# Altium schematic symbol library power.SchLib: 12 symbols
Pins are listed as number, name and electrical type; pins without a type are passive.

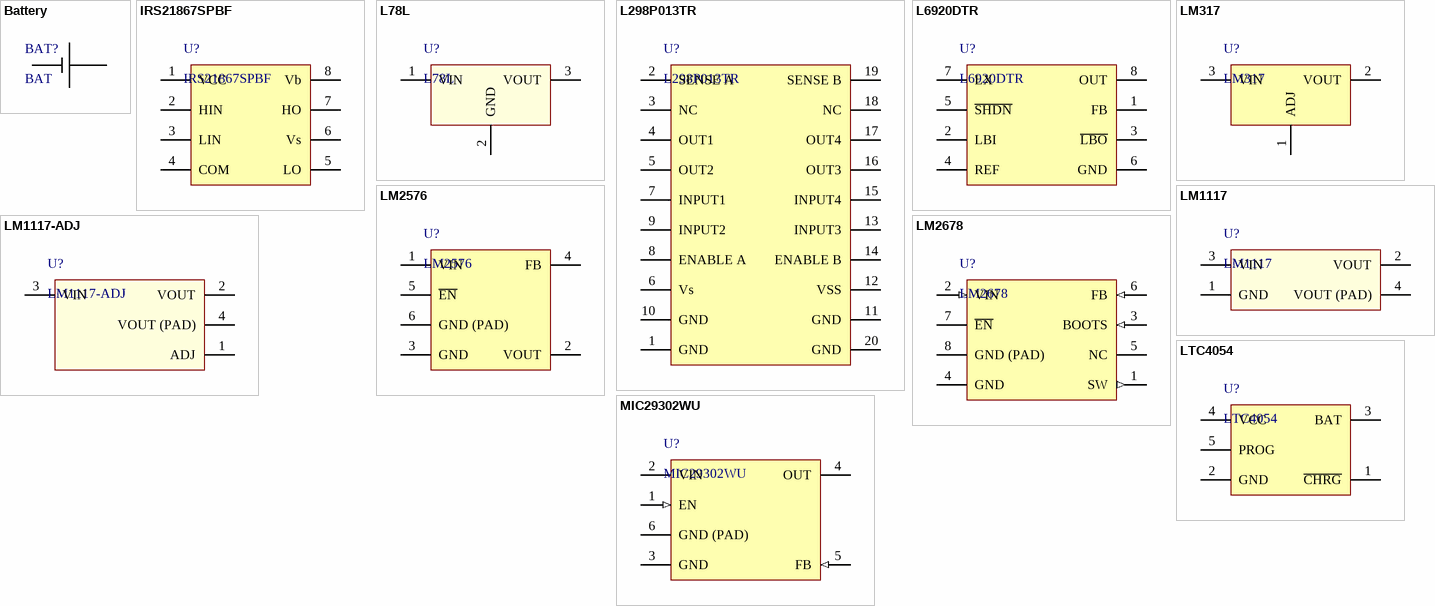
[diagram p0: symbols Battery to MIC29302WU]

## Battery
designator BAT?, comment BAT
Battery
footprint 18650 holder
footprint PLS-2 2.54 (Pitch 2.54)
pins: 1 (power), 2 (power)

## IRS21867SPBF
designator U?
MOSFET driver
footprint SO8_1.27
pins: 1 VCC, 2 HIN, 3 LIN, 4 COM, 5 LO, 6 Vs, 7 HO, 8 Vb

## L78L
designator U?
LDO voltage regulator
footprint SOT89
pins: 1 VIN (power), 2 GND (power), 3 VOUT (power)

## L298P013TR
designator U?
Dual DC motor driver
footprint PowerSO20_1.27 (Dual row, 20 pins, 1.27mm pitch)
pins: 1 GND, 2 SENSE A, 3 NC, 4 OUT1, 5 OUT2, 6 Vs, 7 INPUT1, 8 ENABLE A, 9 INPUT2, 10 GND, 11 GND, 12 VSS, 13 INPUT3, 14 ENABLE B, 15 INPUT4, 16 OUT3, 17 OUT4, 18 NC, 19 SENSE B, 20 GND

## L6920DTR
designator U?
DC-DC step-up switching regulator
footprint SO8_0.65
pins: 1 FB, 2 LBI, 3 ~{LBO}, 4 REF, 5 ~{SHDN}, 6 GND, 7 LX, 8 OUT

## LM317
designator U?
Linear regulator LM317
pins: 1 ADJ, 2 VOUT, 3 VIN

## LM1117
designator U?
LDO voltage regulator
footprint SOT223 (SOT223, 4-Leads, Body 6.50x7.00mm (avg), Pitch 2.30mm, IPC Medium Density)
footprint TO252AA/DPAK (TO252AA/DPAK package); pin to pad 2>3 3>2 4>3
pins: 1 GND (power), 2 VOUT (power), 3 VIN (power), 4 VOUT (PAD) (power)

## LM1117-ADJ
designator U?
LDO voltage regulator
footprint SOT223 (SOT223, 4-Leads, Body 6.50x7.00mm (avg), Pitch 2.30mm, IPC Medium Density)
pins: 1 ADJ (power), 2 VOUT (power), 3 VIN (power), 4 VOUT (PAD) (power)

## LM2576
designator U?
DC-DC step-down switching regulator
footprint TO263-5/D2PAK-5 (TO263/D2PAK package, 5 pins version)
pins: 1 VIN, 2 VOUT, 3 GND, 4 FB, 5 ~{EN}, 6 GND (PAD)

## LM2678
designator U?
DC-DC step-down switching regulator
footprint TO263-7/D2PAK-7 (TO263/D2PAK package, 7 pins version)
pins: 1 SW (out), 2 VIN (in), 3 BOOTS (in), 4 GND, 5 NC, 6 FB (in), 7 ~{EN}, 8 GND (PAD)

## LTC4054
designator U?
Li-ion charger
footprint SOT23-5
pins: 1 ~{CHRG}, 2 GND, 3 BAT, 4 VCC, 5 PROG

## MIC29302WU
designator U?
LDO ADJ
footprint TO263-5/D2PAK-5 (TO263/D2PAK package, 5 pins version)
pins: 1 EN (in), 2 VIN (power), 3 GND (power), 4 OUT (power), 5 FB (in), 6 GND (PAD) (power)